# EAGLE library part TEXAS_INSTRUMENTS-BOOST_CONVERTER-TPS61253AYFFR (library Module_Regulators)
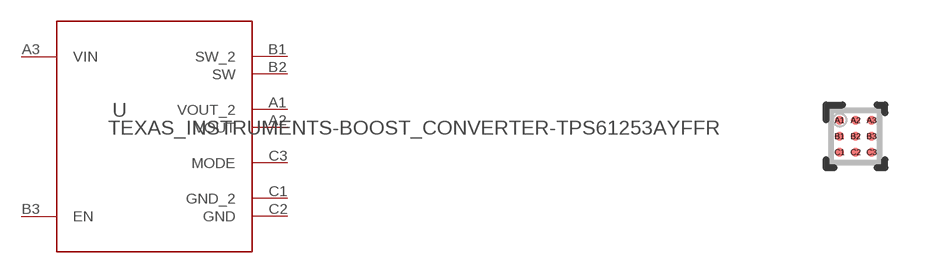
[diagram p28: symbol with the pads of TEXAS_INSTRUMENTS-BOOST_CONVERTER-TPS61253AYFFR; footprint TEXAS_INSTRUMENTS-BOOST_CONVERTER-TPS61253AYFFR]

Designator prefix U

## TEXAS_INSTRUMENTS-BOOST_CONVERTER-TPS61253AYFFR (MANUFACTURER: Texas Instruments; PARTNUMBER: TPS61253AYFFR; REFDES: RefDes; TYPE: TYPE; VALUE: Value)  [TEXAS_INSTRUMENTS-BOOST_CONVERTER-TPS61253AYFFR]
A1  VOUT_2  pwr
A2  VOUT  pwr
A3  VIN  pwr
B1  SW_2  pwr
B2  SW  pwr
B3  EN  in
C1  GND_2  pwr
C2  GND  pwr
C3  MODE  in

## Footprint TEXAS_INSTRUMENTS-BOOST_CONVERTER-TPS61253AYFFR (pad centres in mm)
smd 0.23 x 0.23: A1 -0.4,0.4; A2 0,0.4; A3 0.4,0.4; B1 -0.4,0; B2 0,0; B3 0.4,0; C1 -0.4,-0.4; C2 0,-0.4; C3 0.4,-0.4